# Altium footprint library PcbLib.PcbLib: 46 footprints (part 1 of 3)
Each footprint in its own frame and in the unit in brackets; x right, y up, seen from the top. Pads: shape width x height; smd on the part's side, far side on the other; paste and mask are expansions set on the pad; w line width, h text height; cw(c..) or ccw(c..) is an arc to the next point about the centre after c.
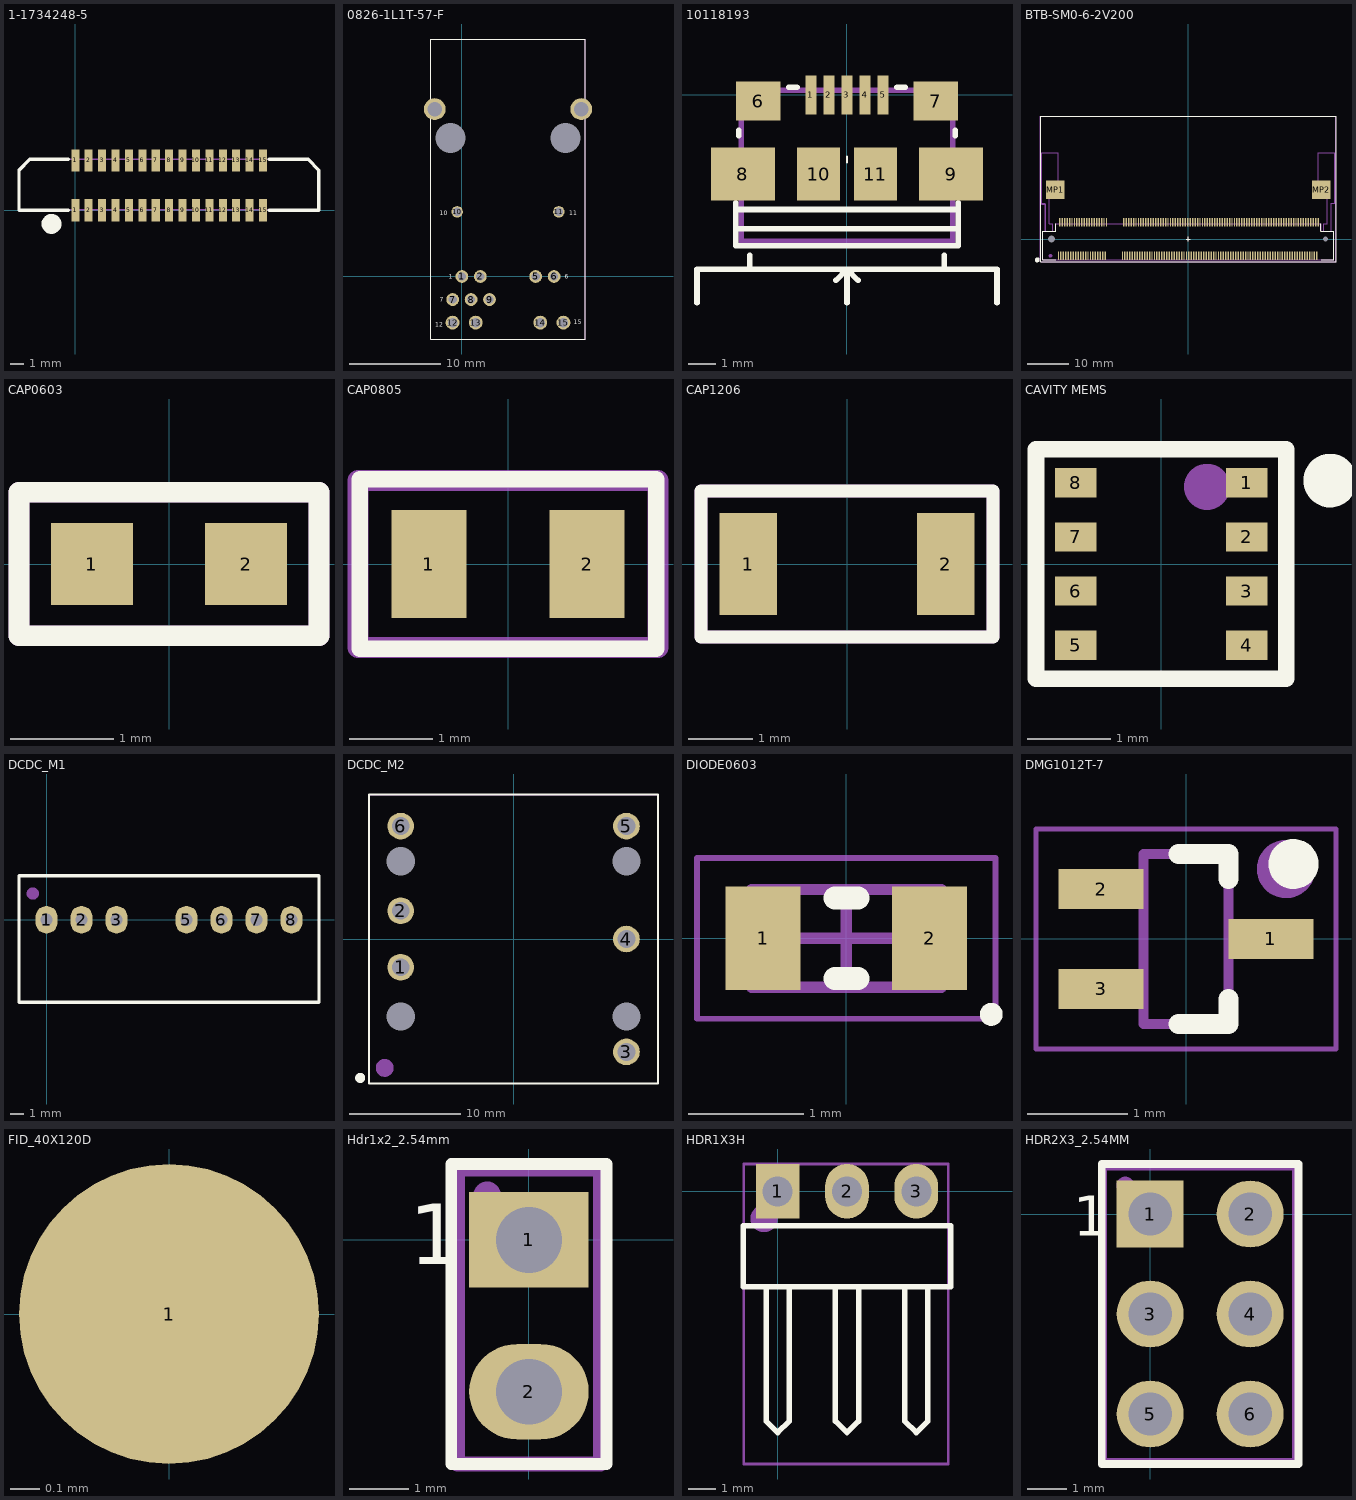
[diagram p0: the footprints below, top view; thin cyan lines are the x and y axes]

## 1-1734248-5 [mm] "flat cable connector"
height 5.5
pads (30):
  rect 0.6x1.65 smd: 1(0,0) 1(0,3.725) 2(1,0) 2(1,3.725) 3(2,0) 3(2,3.725) 4(3,0) 4(3,3.725) 5(4,0) 5(4,3.725) 6(5,0) 6(5,3.725) 7(6,0) 7(6,3.725) 8(7,0) 8(7,3.725) 9(8,0) 9(8,3.725) 10(9,0) 10(9,3.725) 11(10,0) 11(10,3.725) 12(11,0) 12(11,3.725) 13(12,0) 13(12,3.725) 14(13,0) 14(13,3.725) 15(14,0) 15(14,3.725)
Top Overlay:
  circle w0.762: c-1.778,-1.016 r0.359
  lines w0.254: -0.508,0 -4.2,0 -4.2,3 -3.39,3.81 -0.508,3.81 ; 14.478,0 18.17,0 18.17,3 17.36,3.81 14.478,3.81
Mechanical 29:
  lines w0.1: -4.2,0.025 18.175,0.025 18.175,3 17.375,3.8 -3.4,3.8 -4.2,3 -4.2,0.025
  text ".Designator" at 3.7,1.125 h2

## 0826-1L1T-57-F [mm] "Ethernet connector"
pads (17):
  round 1.408 hole 0.9: 1(0,0) 2(2.03,0) 5(8.12,0) 6(10.15,0) 7(-1.015,-2.54) 8(1.015,-2.54) 9(3.045,-2.54)
  round 1.25 hole 0.9: 10(-0.515,7.12) 11(10.665,7.12)
  round 1.53 hole 1.02: 12(-1.02,-5.08) 13(1.52,-5.08) 14(8.63,-5.08) 15(11.17,-5.08)
  round 2.4 hole 1.6: ""(-2.99,18.42) ""(13.14,18.42)
  round 0 hole 3.3 unplated: ""(-1.275,15.24) ""(11.425,15.24)
Top Overlay:
  lines w0.127: -3.425,-6.88 -3.425,26.14 13.575,26.14 13.575,-6.88 -3.425,-6.88
  text "1" at -1.425,-0.26 h0.5
  text "6" at 11.325,-0.26 h0.5
  text "7" at -2.425,-2.76 h0.5
  text "10" at -2.425,6.74 h0.5
  text "11" at 11.825,6.74 h0.5
  text "12" at -2.925,-5.51 h0.5
  text "15" at 12.325,-5.26 h0.5
Mechanical 29:
  lines w0.127: -3.42,-6.88 -3.42,26.14 13.58,26.14 13.58,-6.88 -3.42,-6.88
  text ".Designator" at 0.38,9.42 h2
3D body "7499511611A.stp": height 16.34, standoff -3.14, extent -5.735,-6.87 15.885,26.15

## 10118193 [mm] "Creator MM"
height 3.1
pads (11):
  rect 0.4x1.4 smd mask+0.05: 1(-1.3,0) 2(-0.65,0) 3(0,0) 4(0.65,0) 5(1.3,0)
  rect 1.6x1.4 smd: 6(-3.2,-0.225) 7(3.2,-0.225)
  rect 2.3x1.9 smd: 8(-3.75,-2.85) 9(3.75,-2.85)
  rect 1.55x1.9 smd paste-10: 10(-1.025,-2.85) 11(1.025,-2.85)
Top Overlay:
  lines w0.08: 0,-2.425 0,-2.225
  lines w0.2: -5.4,-7.475 -5.4,-6.275 5.4,-6.275 5.4,-7.475 ; -4,-4.825 4,-4.825 ; -4,-4.125 4,-4.125 ; -4,-3.875 -4,-5.425 4,-5.425 4,-3.875 ; -3.9,-1.475 -3.9,-1.275 ; -3.5,-6.275 -3.5,-5.775 ; -2.1,0.275 -1.8,0.275 ; -0.4,-6.675 0,-6.275 ; 0,-7.475 0,-6.275 ; 0.4,-6.675 0,-6.275 ; 1.8,0.275 2.1,0.275 ; 3.5,-6.275 3.5,-5.775 ; 3.9,-1.475 3.9,-1.275
Mechanical 29:
  lines w0.2: -3.8,-5.275 3.8,-5.275 3.8,0.175 -3.8,0.175 -3.8,-5.275
  text ".Designator" at -2,-3.375 h1.52
3D body "USB_MICRO_SMD.step": height 2.77, standoff -0.26, extent -4.039,-5.255 4.04,0.309

## BTB-SM0-6-2V200 [mm]
pads (204):
  rect 0.35x2 smd: 1(-31.65,-4.1) 2(-31.35,4.1) 3(-31.05,-4.1) 4(-30.75,4.1) 5(-30.45,-4.1) 6(-30.15,4.1) 7(-29.85,-4.1) 8(-29.55,4.1) 9(-29.25,-4.1) 10(-28.95,4.1) 11(-28.65,-4.1) 12(-28.35,4.1) 13(-28.05,-4.1) 14(-27.75,4.1) 15(-27.45,-4.1) 16(-27.15,4.1) 17(-26.85,-4.1) 18(-26.55,4.1) 19(-26.25,-4.1) 20(-25.95,4.1) 21(-25.65,-4.1) 22(-25.35,4.1) 23(-25.05,-4.1) 24(-24.75,4.1) 25(-24.45,-4.1) 26(-24.15,4.1) 27(-23.85,-4.1) 28(-23.55,4.1) 29(-23.25,-4.1) 30(-22.95,4.1) 31(-22.65,-4.1) 32(-22.35,4.1) 33(-22.05,-4.1) 34(-21.75,4.1) 35(-21.45,-4.1) 36(-21.15,4.1) 37(-20.85,-4.1) 38(-20.55,4.1) 39(-20.25,-4.1) 40(-19.95,4.1) 41(-16.05,-4.1) 42(-15.75,4.1) 43(-15.45,-4.1) 44(-15.15,4.1) 45(-14.85,-4.1) 46(-14.55,4.1) 47(-14.25,-4.1) 48(-13.95,4.1) 49(-13.65,-4.1) 50(-13.35,4.1) 51(-13.05,-4.1) 52(-12.75,4.1) 53(-12.45,-4.1) 54(-12.15,4.1) 55(-11.85,-4.1) 56(-11.55,4.1) 57(-11.25,-4.1) 58(-10.95,4.1) 59(-10.65,-4.1) 60(-10.35,4.1) 61(-10.05,-4.1) 62(-9.75,4.1) 63(-9.45,-4.1) 64(-9.15,4.1) 65(-8.85,-4.1) 66(-8.55,4.1) 67(-8.25,-4.1) 68(-7.95,4.1) 69(-7.65,-4.1) 70(-7.35,4.1) 71(-7.05,-4.1) 72(-6.75,4.1) 73(-6.45,-4.1) 74(-6.15,4.1) 75(-5.85,-4.1) 76(-5.55,4.1) 77(-5.25,-4.1) 78(-4.95,4.1) 79(-4.65,-4.1) 80(-4.35,4.1) 81(-4.05,-4.1) 82(-3.75,4.1) 83(-3.45,-4.1) 84(-3.15,4.1) 85(-2.85,-4.1) 86(-2.55,4.1) 87(-2.25,-4.1) 88(-1.95,4.1) 89(-1.65,-4.1) 90(-1.35,4.1) 91(-1.05,-4.1) 92(-0.75,4.1) 93(-0.45,-4.1) 94(-0.15,4.1) 95(0.15,-4.1) 96(0.45,4.1) 97(0.75,-4.1) 98(1.05,4.1) 99(1.35,-4.1) 100(1.65,4.1) 101(1.95,-4.1) 102(2.25,4.1) 103(2.55,-4.1) 104(2.85,4.1) 105(3.15,-4.1) 106(3.45,4.1) 107(3.75,-4.1) 108(4.05,4.1) 109(4.35,-4.1) 110(4.65,4.1) 111(4.95,-4.1) 112(5.25,4.1) 113(5.55,-4.1) 114(5.85,4.1) 115(6.15,-4.1) 116(6.45,4.1) 117(6.75,-4.1) 118(7.05,4.1) 119(7.35,-4.1) 120(7.65,4.1) 121(7.95,-4.1) 122(8.25,4.1) 123(8.55,-4.1) 124(8.85,4.1) 125(9.15,-4.1) 126(9.45,4.1) 127(9.75,-4.1) 128(10.05,4.1) 129(10.35,-4.1) 130(10.65,4.1) 131(10.95,-4.1) 132(11.25,4.1) 133(11.55,-4.1) 134(11.85,4.1) 135(12.15,-4.1) 136(12.45,4.1) 137(12.75,-4.1) 138(13.05,4.1) 139(13.35,-4.1) 140(13.65,4.1) 141(13.95,-4.1) 142(14.25,4.1) 143(14.55,-4.1) 144(14.85,4.1) 145(15.15,-4.1) 146(15.45,4.1) 147(15.75,-4.1) 148(16.05,4.1) 149(16.35,-4.1) 150(16.65,4.1) 151(16.95,-4.1) 152(17.25,4.1) 153(17.55,-4.1) 154(17.85,4.1) 155(18.15,-4.1) 156(18.45,4.1) 157(18.75,-4.1) 158(19.05,4.1) 159(19.35,-4.1) 160(19.65,4.1) 161(19.95,-4.1) 162(20.25,4.1) 163(20.55,-4.1) 164(20.85,4.1) 165(21.15,-4.1) 166(21.45,4.1) 167(21.75,-4.1) 168(22.05,4.1) 169(22.35,-4.1) 170(22.65,4.1) 171(22.95,-4.1) 172(23.25,4.1) 173(23.55,-4.1) 174(23.85,4.1) 175(24.15,-4.1) 176(24.45,4.1) 177(24.75,-4.1) 178(25.05,4.1) 179(25.35,-4.1) 180(25.65,4.1) 181(25.95,-4.1) 182(26.25,4.1) 183(26.55,-4.1) 184(26.85,4.1) 185(27.15,-4.1) 186(27.45,4.1) 187(27.75,-4.1) 188(28.05,4.1) 189(28.35,-4.1) 190(28.65,4.1) 191(28.95,-4.1) 192(29.25,4.1) 193(29.55,-4.1) 194(29.85,4.1) 195(30.15,-4.1) 196(30.45,4.1) 197(30.75,-4.1) 198(31.05,4.1) 199(31.35,-4.1) 200(31.65,4.1)
  rect 4.5x4.6 smd: MP1(-32.45,12) MP2(32.45,12)
  round 0 hole 1.7 unplated: ""(-33.4,0)
  round 0 hole 1.2 unplated: ""(33.4,0)
Top Overlay:
  circle w0.6: c-36.83,-5.08 r0.3
  lines w0.1: -0.5,0 0.5,0 ; 0,-0.5 0,0.5 ; -36,-5.588 -36,29.972 36,29.972 36,-5.588 -36,-5.588
  lines w0.2: -32.35,-5 -35.5,-5 -35.5,1.85 -32.35,1.85 ; 32.34,3.69 32.34,1.85 32.35,1.85 35.5,1.85 35.5,-5 32.35,-5 ; -32.35,1.85 -32.35,3.69 ; -32.35,1.85 -32.35,1.85 ; -32.35,3.69 -32.35,3.69
Mechanical 1:
  lines w0.1: -35.5,-5 -35.5,1.85 ; -35.5,-5 -35.5,1.85 ; -35.5,-5 -32.35,-5 35.5,-5 35.5,1.85 34.859,1.85 34.859,8.704 35.75,8.704 35.75,21.036 31.7,21.036 31.7,10 33.921,10 33.921,3.7 33.03,3.7 33.03,1.85 32.35,1.85 32.35,3.7 -32.35,3.7 ; -35.5,1.85 -34.859,1.85 -34.859,8.704 -35.75,8.704 -35.75,21.036 -31.7,21.036 -31.7,10 -33.921,10 -33.921,3.7 -33.03,3.7 ; -35.5,1.85 -34.75,1.85 -34.75,8.45 -35.75,8.45 -35.75,21.029 -31.725,21.029 -31.725,10 -33.85,10 -33.85,3.7 -33.03,3.7 ; -33.03,1.85 -32.35,1.85 ; -33.03,1.85 -33.03,3.7 ; -33.03,1.85 -32.35,1.85 ; -33.03,1.85 -33.03,3.7 ; -32.35,1.85 -32.35,3.7 ; -32.35,1.85 -32.35,3.7
Mechanical 29:
  circle w0.5: c-33.6,-4.1 r0.2
  lines w0.2: -36.068,-5.588 35.941,-5.588 35.941,29.972 -36.068,29.972 -36.068,-5.588
  text ".Designator" at -6.477,-0.635 h2
  text "compute module" at -14.097,17.399 h2
3D body "User Library-compute_module.step": height 3.7, standoff 2.2, extent -34.5,-0.3 33.1,29.7
3D body: height 3.67, standoff 2.42, extent -33.787,17.805 -32.273,18.492
3D body: height 3.67, standoff 2.42, extent 32.273,17.805 33.787,18.492
3D body: height 2.72, standoff 0.2, extent -32.35,-2.31 32.35,3.7
3D body: height 2, standoff 0.2, extent -32.35,-2.31 32.35,2.9
3D body: height 5.2, standoff 2.72, extent -18.9,-0.166 -18,3.3
3D body: height 5.2, standoff 0.2, extent -19.51,-2.31 -16.46,-0.16
3D body: height 5.2, standoff 3.88, extent -19.51,-3.3 -19.2,-2.29
3D body: height 5.2, standoff 3.88, extent -34.059,-3.3 -19.5,1.85
3D body: height 4.75, standoff 0, extent -16.5,-3.3 32.35,-2.3
3D body: height 5.2, standoff 4.95, extent -19.5,-0.23 -16.55,1.85
3D body: height 3.67, standoff 2.08, extent -33.787,15.835 -33.44,17.858
3D body: height 2.32, standoff 2.08, extent -33.787,15.866 -32.592,17.754
3D body: height 2.68, standoff 1.78, extent -33.45,14.45 -33.1,15.45
3D body: height 2.27, standoff 1.78, extent -35.75,14.45 -35.4,15.45
3D body: height 2.12, standoff 1.78, extent -35.75,14.45 -33.1,15.45
3D body: height 3.22, standoff 2.27, extent -35.75,14 -35.4,16.45
3D body: height 1.22, standoff -0.13, extent -34.175,10 -31.725,10.3
3D body: height 1.22, standoff -0.13, extent -34.175,13.7 -31.725,14
3D body: height 0.92, standoff 0.58, extent -35.4,10 -31.725,14
3D body: height 0.18, standoff -0.13, extent -34.175,10.3 -31.725,11.3
3D body: height 4.82, standoff 2.28, extent -34.123,6.9 -33.95,14.022
3D body: height 2.83, standoff 2.47, extent -33.95,1.85 -33.03,3.7
3D body: height 4.52, standoff 0, extent -35.5,-4.5 -32.35,1.85
3D body: height 1.25, standoff 0.45, extent -34.4,-4.5 -32.35,1.85
3D body: height 0.8, standoff 0, extent -34.4,-5 -32.35,1.85
3D body: height 5.2, standoff 4.52, extent -35.5,-5 -32.35,1.85
3D body: height 5.31, standoff 1.78, extent -34.75,1.85 -33.925,6.9
3D body: height 4.82, standoff 2.27, extent -34.75,6.9 -34.4,8.45
3D body: height 4.82, standoff 2.27, extent -35.75,8.45 -34.4,9.85
3D body: height 4.82, standoff 0.58, extent -35.75,9.85 -35.4,14
3D body: height 0.18, standoff -0.13, extent -34.175,12.7 -31.725,13.7
3D body: height 1.22, standoff 0.92, extent -34.175,10.3 -31.725,13.7
3D body: height 3.67, standoff 2.42, extent -34.123,14.02 -33.44,17.858
3D body: height 3.67, standoff 2.42, extent 33.44,14.02 34.123,17.858
3D body: height 1.22, standoff 0.92, extent 31.725,10.3 34.175,13.7
3D body: height 0.18, standoff -0.13, extent 31.725,12.7 34.175,13.7
3D body: height 4.82, standoff 0.58, extent 35.4,9.85 35.75,14
3D body: height 4.82, standoff 2.27, extent 34.4,8.45 35.75,9.85
3D body: height 4.82, standoff 2.27, extent 34.4,6.9 34.75,8.45
3D body: height 5.31, standoff 1.78, extent 33.925,1.85 34.75,6.9
3D body: height 5.2, standoff 4.52, extent 32.35,-5 35.5,1.85
3D body: height 0.8, standoff 0, extent 32.35,-5 34.4,1.85
3D body: height 1.25, standoff 0.45, extent 32.35,-4.5 34.4,1.85
3D body: height 4.52, standoff 0, extent 32.35,-4.5 35.5,1.85
3D body: height 2.83, standoff 2.47, extent 33.03,1.85 33.95,3.7
3D body: height 4.82, standoff 2.28, extent 33.95,6.9 34.123,14.022
3D body: height 0.18, standoff -0.13, extent 31.725,10.3 34.175,11.3
3D body: height 0.92, standoff 0.58, extent 31.725,10 35.4,14
3D body: height 1.22, standoff -0.13, extent 31.725,13.7 34.175,14
3D body: height 1.22, standoff -0.13, extent 31.725,10 34.175,10.3
3D body: height 3.22, standoff 2.27, extent 35.4,14 35.75,16.45
3D body: height 2.12, standoff 1.78, extent 33.1,14.45 35.75,15.45
3D body: height 2.27, standoff 1.78, extent 35.4,14.45 35.75,15.45
3D body: height 2.68, standoff 1.78, extent 33.1,14.45 33.45,15.45
3D body: height 2.32, standoff 2.08, extent 32.592,15.866 33.787,17.754
3D body: height 3.67, standoff 2.08, extent 33.44,15.835 33.787,17.858
3D body: height 1.25, standoff 0, extent -32.35,-3.3 32.35,-2.3
3D body: height 5.2, standoff 3.88, extent -16.6,-3.32 35.5,1.85
3D body: height 5.2, standoff 4.75, extent -19.51,-3.3 -16.5,-2.29
3D body: height 5.2, standoff 0, extent -32.35,-3.3 -19.2,-2.3

## CAP0603 [mm]
pads (2):
  rect 0.8x0.8 smd: 1(-0.75,0) 2(0.75,0)
Top Overlay:
  lines w0.2: -1.46,-0.699 1.46,-0.699 1.46,0.699 -1.46,0.699 -1.46,-0.699
Mechanical 29:
  lines w0.2: -1.46,-0.699 -1.46,0.699 1.46,0.699 1.46,-0.699 -1.46,-0.699
  text ".Designator" at -0.953,-0.254 h0.6
3D body "C_SMD_0603.step": height 0.9, standoff 0, extent -0.8,-0.4 0.8,0.4

## CAP0805 [mm]
pads (2):
  rect 0.9x1.3 smd: 1(-0.95,0) 2(0.95,0)
Top Overlay:
  lines w0.2: -1.778,-1.016 1.778,-1.016 1.778,1.016 -1.778,1.016 -1.778,-1.016
Mechanical 29:
  lines w0.254: -1.8,-1 1.8,-1 1.8,1 -1.8,1 -1.8,-1
  text ".Designator" at -1.143,-0.381 h0.8
3D body "CAPC2012X95N EIA 0805.step": height 0.95, standoff 0, extent -1,-0.6 1,0.6
3D body "CAPC2012X95N EIA 0805.step": height 1.5, standoff 0.55, extent -1,-0.6 1,0.6

## CAP1206 [mm]
pads (2):
  rect 0.9x1.6 smd: 1(-1.55,0) 2(1.55,0)
Top Overlay:
  lines w0.2: -2.286,-1.143 -2.286,1.143 2.286,1.143 2.286,-1.143 -2.286,-1.143
Mechanical 29:
  lines w0.2: -2.286,-1.143 2.286,-1.143 2.286,1.143 -2.286,1.143 -2.286,-1.143
  text ".Designator" at -1.524,-0.381 h1
3D body "C SMD 1206.step": height 0.94, standoff 0, extent -1.6,-0.8 1.6,0.8

## CAVITY MEMS [mm]
pads (8):
  rect 0.5x0.35 smd: 1(1.025,0.975) 2(1.025,0.325) 3(1.025,-0.325) 4(1.025,-0.975) 5(-1.025,-0.975) 6(-1.025,-0.325) 7(-1.025,0.325) 8(-1.025,0.975)
Top Overlay:
  circle w0.5: c2.025,1 r0.071
  lines w0.2: -1.5,-1.375 -1.5,1.375 1.5,1.375 1.5,-1.375 -1.5,-1.375
Mechanical 29:
  circle w0.5: c0.55,0.925 r0.025
  lines w0.1: -1.475,-1.35 -1.475,1.35 1.475,1.35 1.475,-1.35 -1.475,-1.35
  text ".Designator" at -1.025,-0.6 h1.1
3D body "Bosch_BME280.step": height 0.93, standoff 0, extent -1.25,-1.25 1.25,1.25

## DCDC_M1 [mm]
pads (7):
  oval 1.6x2 hole 0.9: 1(0,0) 2(2.54,0) 3(5.08,0) 5(10.16,0) 6(12.7,0) 7(15.24,0) 8(17.78,0)
Top Overlay:
  lines w0.254: -2,-6 19.78,-6 19.78,3.2 -2,3.2 -2,-6
Mechanical 29:
  circle w0.5: c-1,1.9 r0.2
  lines w0.1: -2,-6 -2,3.2 19.78,3.2 19.78,-6 -2,-6
  text ".Designator" at 4.28,-3.6 h2
3D body: height 10.6, standoff 0, extent -2,-6 19.78,3.2

## DCDC_M2 [mm]
pads (10):
  round 2.4 hole 1.6: 1(-10.16,-2.54) 2(-10.16,2.54) 3(10.16,-10.16) 4(10.16,0) 5(10.16,10.16) 6(-10.16,10.16)
  round 0 hole 2.54 unplated: ""(-10.16,-6.98) ""(-10.16,6.99) ""(10.16,-6.98) ""(10.16,6.99)
Top Overlay:
  circle w0.5: c-13.8,-12.5 r0.2
  lines w0.2: -13,-13 13,-13 13,13 -13,13 -13,-13
Mechanical 1:
  lines w0.1: -13,-13 13,-13 13,13 -13,13 -13,-13
Mechanical 29:
  circle w0.8: c-11.6,-11.6 r0.4
  lines w0.1: -13,-13 13,-13 13,13 -13,13 -13,-13
  text ".Designator" at -3.2,-1.8 h2
3D body: height 10.41, standoff 0, extent -13,-13 13,13

## DIODE0603 [mm]
height 0.5
pads (2):
  rect 0.65x0.9 smd: 1(-0.725,0) 2(0.725,0)
Top Overlay:
  circle w0.1: c1.262,-0.662 r0.05
  lines w0.2: -0.1,-0.35 0.1,-0.35 ; -0.1,0.35 0.1,0.35
Mechanical 13:
  lines w0.1: -0.825,-0.425 -0.825,0.425 0.825,0.425 0.825,-0.425 -0.825,-0.425
Mechanical 15:
  lines w0.05: -1.3,-0.7 -1.3,0.7 1.3,0.7 1.3,-0.7 -1.3,-0.7
  lines w0.1: -0.425,0 0.425,0 ; 0,-0.425 0,0.425
3D body "DIODE0603.step": height 0.5, standoff 0, extent -0.825,-0.425 0.825,0.425

## DMG1012T-7 [mm] "SOT23, 3-Leads, Body 1.60x1.60mm, Pitch 0.50mm, IPC Medium Density"
height 0.8
pads (3):
  rect 0.85x0.4 smd: 1(0.85,0) 2(-0.85,0.5) 3(-0.85,-0.5)
Top Overlay:
  circle w0.25: c1.075,0.75 r0.125
  lines w0.2: -0.075,-0.85 0.425,-0.85 0.425,-0.6 ; -0.075,0.85 0.425,0.85 0.425,0.6
Mechanical 1:
  lines w0.1: -0.425,-0.85 -0.425,0.85 0.425,0.85 0.425,-0.85 -0.425,-0.85
Mechanical 29:
  circle w0.3: c1,0.7 r0.141
  lines w0.05: -1.5,-1.1 -1.5,1.1 1.5,1.1 1.5,-1.1 -1.5,-1.1
  text ".Designator" at -0.6,0.9 h0.9
3D body "DMG1012T-7.step": height 0.8, standoff 0, extent -0.975,-0.85 0.975,0.85

## FID_40X120D [mil]
pads (1):
  round 40 smd paste-40 mask+40: 1(0,0)

## Hdr1x2_2.54mm [mm] "Creator MM"
pads (2):
  rect 2x1.6 hole 1.1: 1(0,0)
  oval 2x1.6 hole 1.1: 2(0,-2.54)
Top Overlay:
  lines w0.2: -1.3,-3.75 -1.3,1.27 1.3,1.27 1.3,-3.75 -1.3,-3.75
  text "1" at -2,-0.41 h1.02
Mechanical 29:
  circle w0.254: c-0.7,0.75 r0.1
  lines w0.254: -1.2,-3.75 1.2,-3.75 1.2,1.19 -1.2,1.19 -1.2,-3.75
  text ".Designator" at 0.75,-3.25 h1.52
3D body "1x2 TH Pitch 2_54mm.step": height 9.5, standoff -3.2, extent -1.27,-3.81 1.27,1.27

## HDR1X3H [mm] "Connector; Header; 3 Position; Right Angle"
pads (3):
  rect 1.6x2 hole 1.1: 1(0,0)
  oval 1.6x2 hole 1.1: 2(2.54,0) 3(5.08,0)
Top Overlay:
  lines w0.2: -0.423,-3.5 -0.423,-5.927 -0.423,-8.427 0,-8.85 0.423,-8.427 0.423,-5.927 0.423,-3.5 ; 2.117,-3.5 2.117,-5.927 2.117,-8.427 2.54,-8.85 2.963,-8.427 2.963,-5.927 2.963,-3.5 ; 4.657,-3.5 4.657,-5.927 4.657,-8.427 5.08,-8.85 5.503,-8.427 5.503,-5.927 5.503,-3.5 ; -1.27,-3.5 -1.27,-1.27 6.35,-1.27 6.35,-3.5 -1.27,-3.5
Mechanical 29:
  circle w0.5: c-0.5,-1 r0.25
  lines w0.1: -1.25,-10 6.25,-10 6.25,1 -1.25,1 -1.25,-10
  text ".Designator" at 0,-3.75 h2
3D body "Header RightAngle 2_54mm Pitch.step": height 3.1, standoff -2.28, extent -1.33,-10.14 6.29,0.34

## HDR2X3_2.54MM [mm] "Creator MM. Boxed overlay added"
pads (6):
  rect 1.7x1.7 hole 1.1: 1(0,0)
  round 1.7 hole 1.1: 2(2.54,0) 3(0,-2.54) 4(2.54,-2.54) 5(0,-5.08) 6(2.54,-5.08)
Top Overlay:
  lines w0.2: -1.23,-6.35 3.77,-6.35 3.77,1.27 -1.23,1.27 -1.23,-6.35
  text "1" at -1.951,-0.551 h1.02
Mechanical 29:
  circle w0.254: c-0.63,0.72 r0.1
  lines w0.2: -1.2,-6.3 3.7,-6.3 3.7,1.2 -1.2,1.2 -1.2,-6.3
  text ".Designator" at 1.8,-5.5 h1.52
3D body "961206-6404-XX.stp": height 8.01, standoff -3.29, extent -1.23,-6.35 3.77,1.27